# EAGLE library part STPIC6C595 (library st-microelectronics)
8-bit shift register with open drain output (100mA/channel)
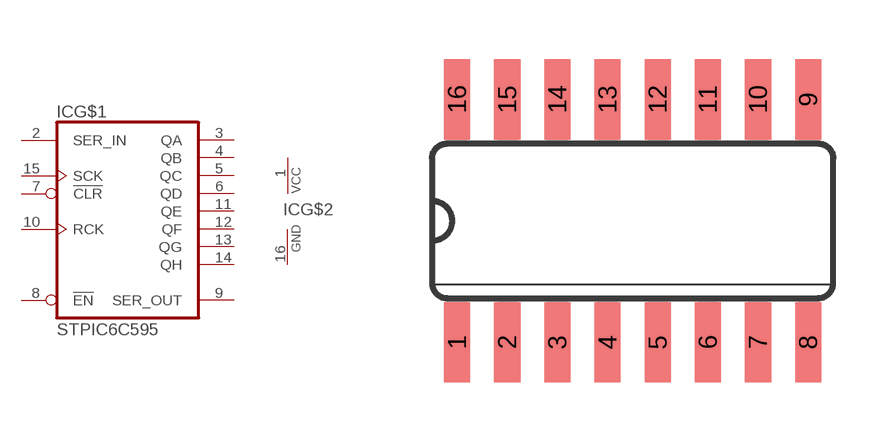
[diagram p50: symbol with the pads of SO16; footprint SO16]

Designator prefix IC; gates G$1=STPIC6C595 G$2=PWRN

## STPIC6C595  [SO16]
1  G$2:VCC  pwr
2  G$1:SER_IN  in
3  G$1:QA  out
4  G$1:QB  out
5  G$1:QC  out
6  G$1:QD  out
7  G$1:!CLR  in
8  G$1:!EN  in
9  G$1:SER_OUT  out
10  G$1:RCK  in
11  G$1:QE  out
12  G$1:QF  out
13  G$1:QG  out
14  G$1:QH  out
15  G$1:SCK  in
16  G$2:GND  pwr

## Footprint SO16 (pad centres in mm)
Small Outline package 150 mil
smd 0.66 x 2.032: 1 -4.445,-3.073; 2 -3.175,-3.073; 3 -1.905,-3.073; 4 -0.635,-3.073; 5 0.635,-3.073; 6 1.905,-3.073; 7 3.175,-3.073; 8 4.445,-3.073; 9 4.445,3.073; 10 3.175,3.073; 11 1.905,3.073; 12 0.635,3.073; 13 -0.635,3.073; 14 -1.905,3.073; 15 -3.175,3.073; 16 -4.445,3.073